# Altium schematic symbol library RFID_system_2.SCHLIB: 10 symbols
Pins are listed as number, name and electrical type; pins without a type are passive.

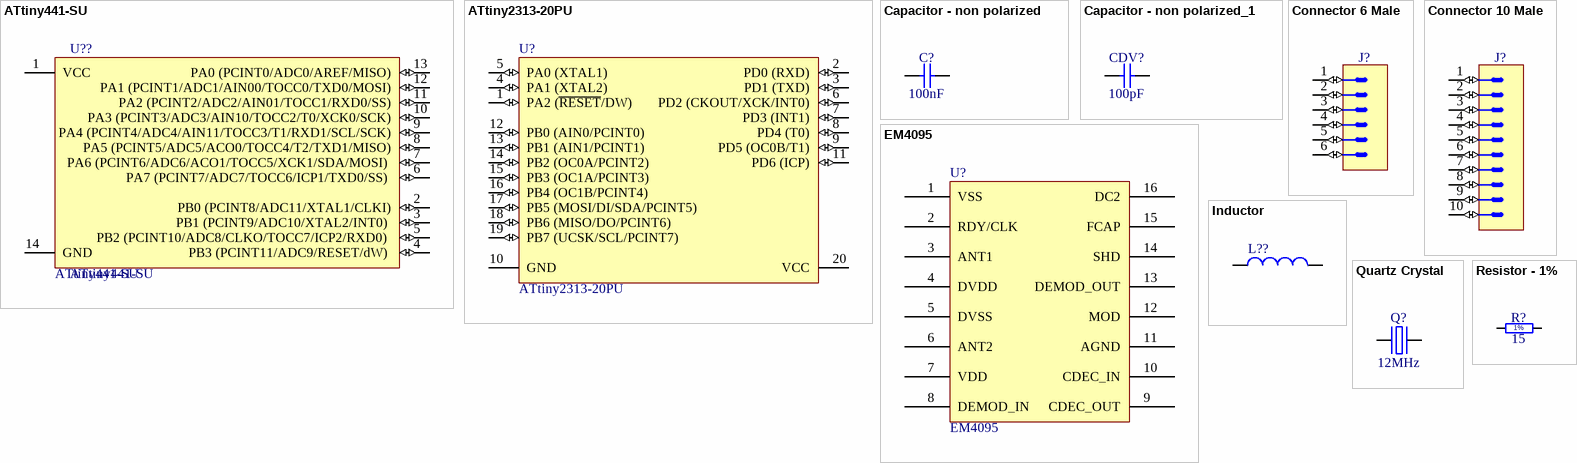
[diagram p0: symbols ATtiny441-SU to Resistor - 1%]

## ATtiny441-SU
designator U??
8-bit AVR Microcontroller, 1.8-5.5V, 2KB Flash, 128 Bytes SRAM, 12 GPIO pins, 14-pin SOIC, Industrial Grade (-40°C to 85°C), Pb-Free; Published: 1-Apr-2010; DatasheetVersion: revA, Mar-2010; PackageVersion: revA, Feb-2002; PackageReference: 14S1; Publisher: Altium Limited; PackageDescription: 14-Lead, 0.150” Wide Body, Plastic Gull Wing Small Outline Package (SOIC); Code_JEDEC: MS-012-AB; Code_IPC: SOIC127P600-14; ComponentLink1Description: ATtiny20 Datasheet; ComponentLink1URL: http://www.atmel.com/dyn/resources/prod_documents/doc8235.pdf; ComponentLink2Description: ATtiny20 Summary; ComponentLink2URL: http://www.atmel.com/dyn/resources/prod_documents/8235S.pdf; ComponentLink3Description: Atmel.com Home; ComponentLink3URL: http://www.atmel.com; Supplier 1: Digi-Key; Supplier Part Number 1: 1611-ATTINY44-15SSZCT-ND; Name: ATtiny441-SU
footprint 14S1_N (SOIC, 14-Leads, Body 8.7x3.9mm, Pitch 1.27mm, IPC Medium Density)
footprint 14S1_L (SOIC, 14-Leads, Body 8.7x3.9mm, Pitch 1.27mm, IPC High Density)
footprint 14S1_M (SOIC, 14-Leads, Body 8.7x3.9mm, Pitch 1.27mm, IPC Low Density)
pins: 1 VCC (power), 2 PB0 (PCINT8/ADC11/XTAL1/CLKI) (io), 3 PB1 (PCINT9/ADC10/XTAL2/INT0)  (io), 4 PB3 (PCINT11/ADC9/RESET/dW)  (io), 5 PB2 (PCINT10/ADC8/CLKO/TOCC7/ICP2/RXD0)  (io), 6 PA7 (PCINT7/ADC7/TOCC6/ICP1/TXD0/SS)  (io), 7 PA6 (PCINT6/ADC6/ACO1/TOCC5/XCK1/SDA/MOSI)  (io), 8 PA5 (PCINT5/ADC5/ACO0/TOCC4/T2/TXD1/MISO) (io), 9 PA4 (PCINT4/ADC4/AIN11/TOCC3/T1/RXD1/SCL/SCK) (io), 10 PA3 (PCINT3/ADC3/AIN10/TOCC2/T0/XCK0/SCK) (io), 11 PA2 (PCINT2/ADC2/AIN01/TOCC1/RXD0/SS) (io), 12 PA1 (PCINT1/ADC1/AIN00/TOCC0/TXD0/MOSI) (io), 13 PA0 (PCINT0/ADC0/AREF/MISO) (io), 14 GND (power)

## ATtiny2313-20PU
designator U?
Low Power tinyAVR® 8-Bit Microcontroller, 2K Flash Memory, 20MHz, Industrial Temperature, 20-Lead PDIP, Pb-Free; Published: 20-Nov-2009; DatasheetVersion: DOC2543B, Mar-2009; PackageVersion: revC, Jan-2004; PackageReference: 20P3; Publisher: Altium Limited; PackageDescription: 20-lead (0.300"/7.62mm Wide) Plastic Dual Inline Package (PDIP); Supplier 1: Digi-Key; Supplier Part Number 1: ATTINY2313-20PU-ND; Supplier 2: Farnell; Supplier Part Number 2: 9171592; Supplier 3: Mouser; Supplier Part Number 3: 556-ATTINY2313-20PU; Code_JEDEC: MS-001-AD; ComponentLink1Description: Manufacturer Link; ComponentLink1URL: http://www.atmel.com/products/AVR/tinyavr.asp?; ComponentLink2Description: Datasheet; ComponentLink2URL: http://www.atmel.com/dyn/resources/prod_documents/doc2543.pdf; ComponentLink3Description: Atmel.com Home; ComponentLink3URL: http://www.atmel.com
footprint 20P3 (DIP, 20-Leads, Row Spacing 7.62mm, Pitch 2.54mm, Body 25.9x6.61mm)
pins: 1 PA2 (~{RESET}/DW) (io), 2 PD0 (RXD) (io), 3 PD1 (TXD) (io), 4 PA1 (XTAL2) (io), 5 PA0 (XTAL1) (io), 6 PD2 (CKOUT/XCK/INT0) (io), 7 PD3 (INT1) (io), 8 PD4 (T0) (io), 9 PD5 (OC0B/T1) (io), 10 GND (power), 11 PD6 (ICP) (io), 12 PB0 (AIN0/PCINT0) (io), 13 PB1 (AIN1/PCINT1) (io), 14 PB2 (OC0A/PCINT2) (io), 15 PB3 (OC1A/PCINT3) (io), 16 PB4 (OC1B/PCINT4) (io), 17 PB5 (MOSI/DI/SDA/PCINT5) (io), 18 PB6 (MISO/DO/PCINT6) (io), 19 PB7 (UCSK/SCL/PCINT7) (io), 20 VCC (power)

## Capacitor - non polarized
designator C?, comment 100nF
Non-polarised capacitor; Part Number: CC0805_100NF_50V_10%_X7R; Part Description: SMD Multilayer Chip Ceramic Capacitor; Manufacturer: GENERIC; Manufacturer1 Part Number: C2012X7R1H104K085AA; Voltage: 50V; TC: X7R; Tolerance: ±10%; Component Kind: Standard; Component Type: Standard; Footprint: CAPC2012X135N; Pin Count: 2; Value: 100nF; Status: Preferred; Manufacturer Part Number: CC0805_100NF_50V_10%_X7R; Case: 0805; Mounted: Yes; Socket: No; SMD: Yes; Sense: No; Manufacturer1 Example: TDK; Manufacturer1 ComponentHeight: 1mm; HelpURL: \\cern.ch\dfs\Applications\Altium\Datasheets\CC0805_X7R_TDK_C.pdf; Author: CERN DEM JLC; CreateDate: 2007-12-03; LatestRevisionDate: 2015-04-22
footprint CAPC2012X135N
pins: 1, 2

## Capacitor - non polarized_1
designator CDV?, comment 100pF
Non-polarised capacitor; Part Number: CC0805_100PF_50V_5%_C0G_KEMET_C0805C101J5GACAUTO; Part Description: SMD Multilayer Chip Ceramic Capacitor (Automotive Grade); Manufacturer: KEMET; Manufacturer Part Number: C0805C101J5GACAUTO; Voltage: 50V; TC: C0G/NP0; Tolerance: ±5%; Component Kind: Standard; Component Type: Standard; Footprint: CAPC2012X88N; Pin Count: 2; Value: 100pF; Status: Not Recommended; Case: 0805; Mounted: Yes; Socket: No; SMD: Yes; Sense: No; ComponentHeight: 0.88mm; HelpURL: \\cern.ch\dfs\Applications\Altium\Datasheets\CC0805_KEMET_C0805C101J5GACAUTO.pdf; Author: CERN DEM BC; CreateDate: 2016-02-26; LatestRevisionDate: 2016-02-26
footprint CAPC2012X88N
pins: 1, 2

## Connector 6 Male
designator J?, comment C-Grid III™  (value not drawn)
Connector 6 Male; Part Number: MOLEX_90136-1206; Part Description: 2.54mm (.100") Pitch C-Grid III™ Header, Single Row, Vertical, Shrouded, 6 Circuits; Manufacturer: MOLEX; Manufacturer Part Number: 90136-1206; PressFit: No; Component Kind: Standard; Component Type: Standard; Footprint: MOLEX_90136-1206; Pin Count: 6; Family: C-Grid III™; Mounted: Yes; Socket: No; SMD: No; Sense: No; Status: None; ComponentHeight: 11.1mm; HelpURL: \\cern.ch\dfs\Applications\Altium\Datasheets\MOLEX_90136-1206.pdf; Author: CERN DEM JLC; CreateDate: 2008-08-20; LatestRevisionDate: 2008-08-20
footprint MOLEX_90136-1206
pins: 1 (io), 2 (io), 3 (io), 4 (io), 5 (io), 6 (io)
1 alternate drawing of the same symbol

## Connector 10 Male
designator J?, comment C-Grid®  (value not drawn)
Connector 10 Male; Part Number: MOLEX_70246-1004; Part Description: 2.54mm Pitch C-Grid® Header, Low Profile, Dual Row, Vertical, Shrouded Header; Manufacturer: MOLEX; Manufacturer Part Number: 70246-1004; PressFit: No; Component Kind: Standard; Component Type: Standard; Footprint: MOLEX_70246-1004; Pin Count: 10; Family: C-Grid®; Mounted: Yes; Socket: No; SMD: No; Sense: No; Status: None; ComponentHeight: 9.27mm; HelpURL: \\cern.ch\dfs\Applications\Altium\Datasheets\MOLEX_70246-1004.pdf; Author: CERN DEM JLC; CreateDate: 2013-08-14; LatestRevisionDate: 2013-08-14
footprint MOLEX_70246-1004
pins: 1 (io), 2 (io), 3 (io), 4 (io), 5 (io), 6 (io), 7 (io), 8 (io), 9 (io), 10 (io)
1 alternate drawing of the same symbol

## EM4095
designator U?
pins: 1 VSS, 2 RDY/CLK, 3 ANT1, 4 DVDD, 5 DVSS, 6 ANT2, 7 VDD, 8 DEMOD_IN, 9 CDEC_OUT, 10 CDEC_IN, 11 AGND, 12 MOD, 13 DEMOD_OUT, 14 SHD, 15 FCAP, 16 DC2

## Inductor
designator L??
Inductor; Code_IEC: 1005; Published: 8-Jun-2000; LatestRevisionDate: 29-May-2009; LatestRevisionNote: IPC-7351 Footprint Added.; PackageReference: 0402-A; Publisher: Altium Limited; PackageDescription: Chip Inductor; Code_JEITA: 0402
footprint 0402-A (Chip Inductor, Body 1.0x0.5mm, IPC High Density)
footprint INDC1608L (Chip Inductor, Body 1.6x0.8mm, IPC High Density)
footprint 2029 (Chip Inductor, Body 2.0x1.2mm, IPC High Density)
footprint 0603 (Chip Inductor, Body 0.6x0.3mm, IPC High Density)
footprint INDC3216 (Chip Inductor, Body 3.2x1.6mm, IPC High Density)
footprint INDC4532 (Chip Inductor, Body 4.5x3.2mm, IPC High Density)
simulation model INDUCTOR (Inductor)
signal-integrity model Inductor
pins: 1, 2

## Quartz Crystal
designator Q?, comment 12MHz
Quartz Crystal; Part Number: XTAL_12MHZ_TXC_7A-12.000MAAJ-T; Part Description: Tolerance: ±30ppm, Stability: ±30ppm, -20°C to +70°C, 18pF, SMD Glass Seam Sealing Crystal, 7A Series; Manufacturer: TXC CORPORATION; Manufacturer Part Number: 7A-12.000MAAJ-T; PressFit: No; Bonding: No; Component Kind: Standard; Component Type: Standard; Footprint: XTAL_TXC_7A; PackageDescription: 2 Pins, 3.2x5mm, SMD Glass Seam Sealing Crystal, 7A Serie; Value: 12MHz; Pin Count: 2; Mounted: Yes; Socket: No; SMD: Yes; Sense: No; ComponentHeight: 1.2mm; HelpURL: \\cern.ch\dfs\Applications\Altium\Datasheets\XTAL_TXC_7A.pdf; Author: CERN DEM JLC; CreateDate: 2014-11-12; LatestRevisionDate: 2014-11-12
footprint XTAL_TXC_7A
pins: 1 OSC1, 2 OSC2

## Resistor - 1%
designator R?, comment 15
Resistor - 1%; Part Number: R1206_10K_1%_0.5W_100PPM_VISHAY_CRCW-HP e3; Part Description: Pulse Proof, High Power Thick Film Chip Resistor; Manufacturer: VISHAY DRALORIC; Manufacturer Part Number: CRCW120610K0FKEAHP; Power: 0.5W; TC: ±100ppm/°C; Voltage: 200V; PressFit: No; Component Kind: Standard; Component Type: Standard; Footprint: RESC3216X65N; Pin Count: 2; Value: 15; Status: None; Tolerance: ±1%; Case: 1206; Mounted: Yes; Sense: No; Socket: No; SMD: Yes; ComponentHeight: 0.65mm; HelpURL: \\cern.ch\dfs\Applications\Altium\Datasheets\R1206_VISHAY_CRCW-HP e3.pdf; Author: CERN DEM JLC; CreateDate: 2014-05-13; LatestRevisionDate: 2014-05-13
footprint RESC3216X65N
pins: 1, 2
text: 1%